# Altium footprint library lib_infineon.PcbLib: 2 footprints
Each footprint in its own frame and in the unit in brackets; x right, y up, seen from the top. Pads: shape width x height; smd on the part's side, far side on the other; paste and mask are expansions set on the pad; w line width, h text height; cw(c..) or ccw(c..) is an arc to the next point about the centre after c.
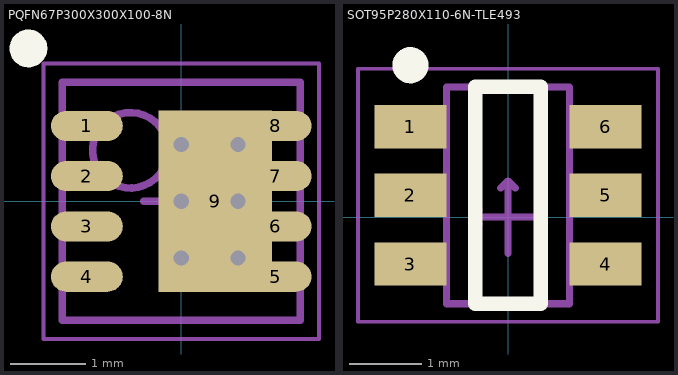
[diagram p0: the footprints below, top view; thin cyan lines are the x and y axes]

## PQFN67P300X300X100-8N [mm] "PQFN, 8-Leads, Body 3.00x3.00mm, Pitch 0.67mm, IPC Medium Density"
height 1
pads (9):
  oval 0.95x0.4 smd: 1(-1.25,0.999) 2(-1.25,0.333) 3(-1.25,-0.333) 4(-1.25,-0.999) 5(1.25,-0.999) 6(1.25,-0.333) 7(1.25,0.333) 8(1.25,0.999)
  rect 1.5x2.4 smd: 9(0.45,0)
via 0,-0.75 diameter 0.4 hole 0.2
via 0.75,-0.75 diameter 0.4 hole 0.2
via 0.75,0 diameter 0.4 hole 0.2
via 0.75,0.75 diameter 0.4 hole 0.2
via 0,0.75 diameter 0.4 hole 0.2
via 0,0 diameter 0.4 hole 0.2
Top Overlay:
  circle w0.25: c-2.025,2.025 r0.125
Mechanical 13:
  circle w0.1: c-0.675,0.675 r0.5
  lines w0.1: -1.575,-1.575 -1.575,1.575 1.575,1.575 1.575,-1.575 -1.575,-1.575
Mechanical 15:
  lines w0.05: -1.825,-1.825 -1.825,1.825 1.825,1.825 1.825,-1.825 -1.825,-1.825
  lines w0.1: -0.5,0 0.5,0 ; 0,-0.5 0,0.5
3D body "PQFN67P300X300X100-8N.step": height 1, standoff 0, extent -1.575,-1.575 1.575,1.575

## SOT95P280X110-6N-TLE493 [mm] "SOT23, 6-Leads, Body 2,90x2,80mm, Pitch 0,95mm, IPC Medium Density"
height 1.1
pads (6):
  rect 1x0.6 smd: 1(-1.35,1.25) 2(-1.35,0.3) 3(-1.35,-0.65) 4(1.35,-0.65) 5(1.35,0.3) 6(1.35,1.25)
Top Overlay:
  circle w0.25: c-1.35,2.1 r0.125
  lines w0.2: -0.45,-1.2 0.45,-1.2 0.45,1.8 -0.45,1.8 -0.45,-1.2
Mechanical 13:
  lines w0.1: -0.85,-1.2 -0.85,1.8 0.85,1.8 0.85,-1.2 -0.85,-1.2
Mechanical 15:
  lines w0.05: -2.075,-1.45 -2.075,2.05 2.075,2.05 2.075,-1.45 -2.075,-1.45
  lines w0.1: -0.4,-0.1 -0.5,0 ; -0.4,0.1 -0.5,0 ; -0.1,0.4 0,0.5 ; 0,-0.5 0,0.5 ; 0.1,0.4 0,0.5 ; 0.5,0 -0.5,0
3D body "SOT95P280X110-6N.step": height 1.1, standoff 0, extent -1.5,-1.2 1.5,1.8